# Altium footprint library ANTEN.PcbLib: 1 footprints
Each footprint in its own frame and in the unit in brackets; x right, y up, seen from the top. Pads: shape width x height; smd on the part's side, far side on the other; paste and mask are expansions set on the pad; w line width, h text height; cw(c..) or ccw(c..) is an arc to the next point about the centre after c.
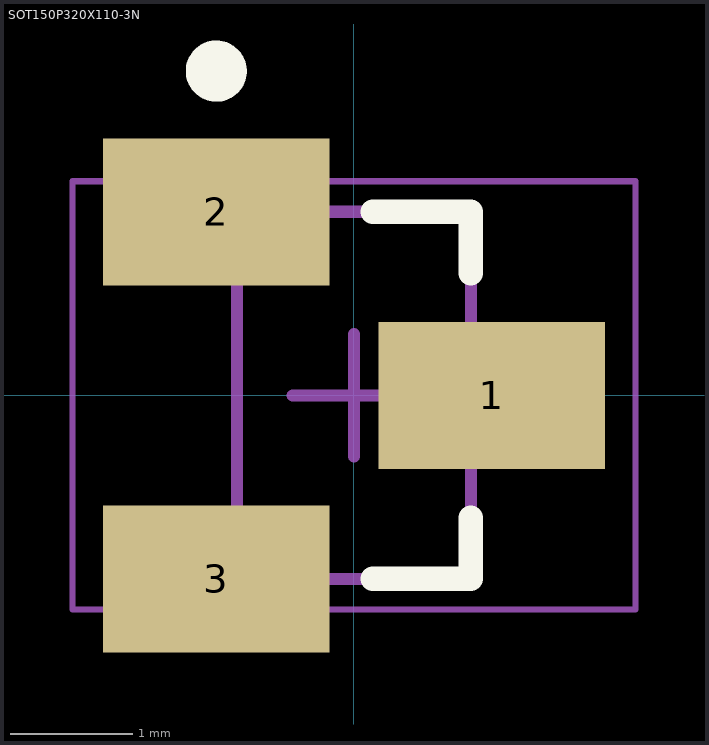
[diagram p0: the footprint, top view; thin cyan lines are the x and y axes]

## SOT150P320X110-3N [mm] "SOT23, 3-Leads, Body 3.00x3.20mm, Pitch 1.50mm, IPC Medium Density"
height 1.1
pads (3):
  rect 1.85x1.2 smd: 1(1.125,0) 2(-1.125,1.5) 3(-1.125,-1.5)
Top Overlay:
  circle w0.25: c-1.125,2.65 r0.125
  lines w0.2: 0.155,-1.5 0.955,-1.5 0.955,-1 ; 0.155,1.5 0.955,1.5 0.955,1
Mechanical 13:
  lines w0.1: -0.955,-1.5 -0.955,1.5 0.955,1.5 0.955,-1.5 -0.955,-1.5
Mechanical 15:
  lines w0.05: -2.3,-1.75 -2.3,1.75 2.3,1.75 2.3,-1.75 -2.3,-1.75
  lines w0.1: -0.5,0 0.5,0 ; 0,-0.5 0,0.5
3D body: height 1.1, standoff 0.05, extent -0.955,-1.5 0.955,1.5